# Altium schematic symbol library video_codec.SchLib: 2 symbols
Pins are listed as number, name and electrical type; pins without a type are passive.

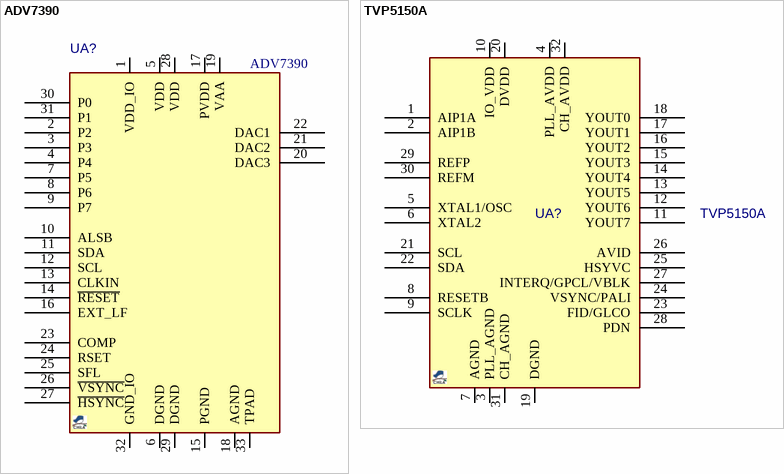
[diagram p0: symbols ADV7390 to TVP5150A]

## ADV7390
designator UA?
IC, Video Encoder, 10-Bit SD/HD; MANF_P#: ADV7390BCPZ; MANF: ANALOG DEVICE; MANF: AD; DESC: DESCRIPTION; ASSEMBLY: ASSEMBLY; PARAM: PARAM; PRICE: PRICE; VALUE: ADV7390
footprint QFN50_32T (QFN, 32, 5X5mm, 0.5mm)
pins: 1 VDD_IO, 2 P2, 3 P3, 4 P4, 5 VDD, 6 DGND, 7 P5, 8 P6, 9 P7, 10 ALSB, 11 SDA, 12 SCL, 13 CLKIN, 14 ~{RESET}, 15 PGND, 16 EXT_LF, 17 PVDD, 18 AGND, 19 VAA, 20 DAC3, 21 DAC2, 22 DAC1, 23 COMP, 24 RSET, 25 SFL, 26 ~{VSYNC}, 27 ~{HSYNC}, 28 VDD, 29 DGND, 30 P0, 31 P1, 32 GND_IO, 33 TPAD

## TVP5150A
designator UA?
IC, video decoder for NTSC and PAL; MANF_P#: TVP5150AM1IPBSR; MANF: TI; DESC: DESCRIPTION; ASSEMBLY: ASSEMBLY; PARAM: PARAM; PRICE: PRICE; VALUE: TVP5150A
footprint QFG50_32 (PBS TSQFP, 32-Leads, Body 5.00x5.00mm, Pitch 0.50mm)
pins: 1 AIP1A, 2 AIP1B, 3 PLL_AGND, 4 PLL_AVDD, 5 XTAL1/OSC, 6 XTAL2, 7 AGND, 8 RESETB, 9 SCLK, 10 IO_VDD, 11 YOUT7, 12 YOUT6, 13 YOUT5, 14 YOUT4, 15 YOUT3, 16 YOUT2, 17 YOUT1, 18 YOUT0, 19 DGND, 20 DVDD, 21 SCL, 22 SDA, 23 FID/GLCO, 24 VSYNC/PALI, 25 HSYVC, 26 AVID, 27 INTERQ/GPCL/VBLK, 28 PDN, 29 REFP, 30 REFM, 31 CH_AGND, 32 CH_AVDD